# EAGLE library part MEMORY-I2C (library firefly)
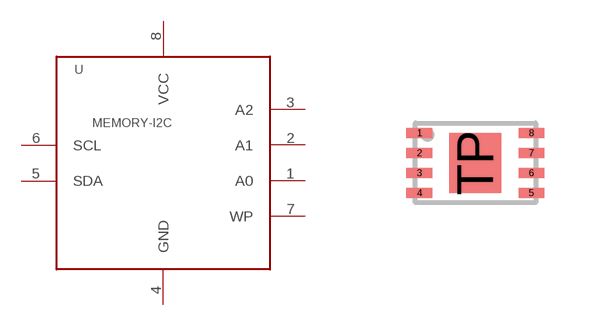
[diagram p4: symbol with the pads of UDFN-8; footprint UDFN-8]

Designator prefix -

## MEMORY-I2CUDFN-8  [UDFN-8]
1  A0
2  A1
3  A2
4  GND
5  SDA
6  SCL
7  WP
8  VCC

## Footprint UDFN-8 (pad centres in mm)
smd 0.65 x 0.25: 1 -1.4,0.75; 2 -1.4,0.25; 3 -1.4,-0.25; 4 -1.4,-0.75; 5 1.4,-0.75; 6 1.4,-0.25; 7 1.4,0.25; 8 1.4,0.75
smd 1.3 x 1.5: TP 0,0